# EAGLE library part FRAM_SPI (library Adafruit_Modules)
Adafruit SPI FRAM Breakout 64Kbit (8Kbyte)
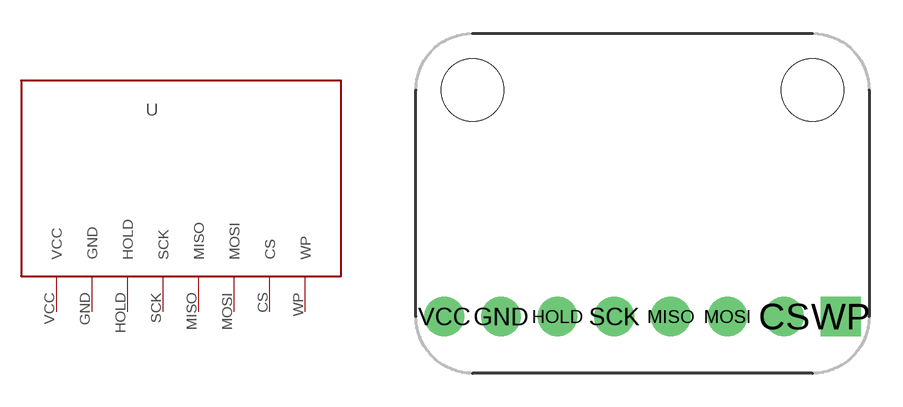
[diagram p5: symbol with the pads of FRAM_SPI; footprint FRAM_SPI]

Designator prefix -

## FRAM_SPI (ADAFRUIT: 1897)  [FRAM_SPI]
CS  CS
GND  GND  pwr
HOLD  HOLD  pas
MISO  MISO
MOSI  MOSI
SCK  SCK
VCC  VCC  pwr
WP  WP

## Footprint FRAM_SPI (pad centres in mm)
Adafruit SPI FRAM 64kbit (8k)
drill 1.1 pad 1.778: CS 6.35,0; GND -6.35,0; HOLD -3.81,0; MISO 1.27,0; MOSI 3.81,0; SCK -1.27,0; VCC -8.89,0
drill 1.1 pad 1.778 square: WP 8.89,0
hole 2.8 at -7.62,10.16
hole 2.8 at 7.62,10.16